# EAGLE library part DIP-VR-TOP-ADJ-20K(6P-75X9X6.5MM) (library Seeed-OPL-Resistor)
301040025
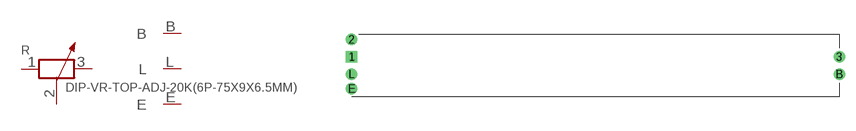
[diagram p7: symbol with the pads of ADJR6-75X9X7MM; footprint ADJR6-75X9X7MM]

Designator prefix R

## DIP-VR-TOP-ADJ-20K(6P-75X9X6.5MM) (MPN: PTL60-10O0-203B2; VALUE: PTL60-10O0-203B2)  [ADJR6-75X9X7MM]
1  1  pas
2  2  pas
3  3  pas
B  B
E  E
L  L

## Footprint ADJR6-75X9X7MM (pad centres in mm)
drill 1.1 square: 1 -35,1.25
drill 1.1: 2 -35,3.75; 3 35,1.25; B 35,-1.25; E -35,-3.35; L -35,-1.25